# Altium schematic symbol library HTOL Project.SCHLIB: 9 symbols
Pins are listed as number, name and electrical type; pins without a type are passive.

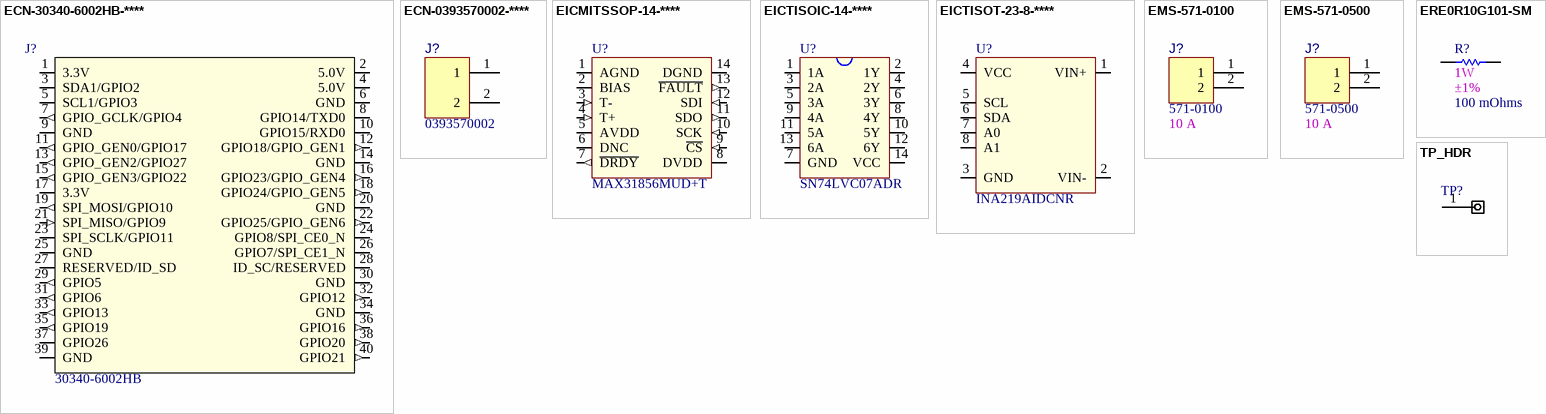
[diagram p0: symbols ECN-30340-6002HB-**** to TP_HDR]

## ECN-30340-6002HB-****
designator J?, comment value 30340-6002HB  (hidden comment: CONN HEADER VERT 40POS 2.54MM)
Manufacturer: 3M; Vendor Part Number: 3M15458-ND; Internal Part Number: ECN-30340-6002HB-****; Vendor Name: Digi-Key; 3rd Auxiliary Field: RoHS3 Compliant; Component Height (mm): 9.30mm; Temp Co: -55°C ~ 105°C; 1st Auxiliary Field: 2 Rows; Part Type: CONN HEADER VERT 40POS 2.54MM; Manufacturer Part Number: 30340-6002HB; 4th Auxiliary Field: *; 2nd Auxiliary Field: 2.54mm
footprint CONN_30340-6002HB (CONN HEADER VERT 40POS 2.54MM)
pins: 1 3.3V (power), 2 5.0V (power), 3 SDA1/GPIO2 (io), 4 5.0V (power), 5 SCL1/GPIO3 (io), 6 GND (power), 7 GPIO_GCLK/GPIO4 (out), 8 GPIO14/TXD0 (io), 9 GND (power), 10 GPIO15/RXD0 (io), 11 GPIO_GEN0/GPIO17 (out), 12 GPIO18/GPIO_GEN1 (out), 13 GPIO_GEN2/GPIO27 (out), 14 GND (power), 15 GPIO_GEN3/GPIO22 (out), 16 GPIO23/GPIO_GEN4 (out), 17 3.3V (power), 18 GPIO24/GPIO_GEN5 (out), 19 SPI_MOSI/GPIO10 (out), 20 GND (power), 21 SPI_MISO/GPIO9 (in), 22 GPIO25/GPIO_GEN6 (out), 23 SPI_SCLK/GPIO11 (io), 24 GPIO8/SPI_CE0_N (io), 25 GND (power), 26 GPIO7/SPI_CE1_N (io), 27 RESERVED/ID_SD (io), 28 ID_SC/RESERVED (io), 29 GPIO5 (out), 30 GND (power), 31 GPIO6 (out), 32 GPIO12 (out), 33 GPIO13 (out), 34 GND (power), 35 GPIO19 (out), 36 GPIO16 (out), 37 GPIO26 (io), 38 GPIO20 (out), 39 GND (power), 40 GPIO21 (out)

## ECN-0393570002-****
designator J?, comment value 0393570002  (hidden comment: TERM BLK 2POS SIDE ENT 3.5MM PCB)
Manufacturer: Molex; Internal Part Number: ECN-0393570002-****; Vendor Part Number: WM7877-ND; 3rd Auxiliary Field: ROHS3 Compliant; Temp Co: -40°C ~ 105°C; Vendor Name: Digi-Key; 1st Auxiliary Field: 12A; 2nd Auxiliary Field: 3.50mm; Manufacturer Part Number: 0393570002; Component Height (mm): *; Part Type: TERM BLK 2POS SIDE ENT 3.5MM PCB; 4th Auxiliary Field: *
footprint CONN_0393570002 (TERM BLK 2POS SIDE ENT 3.5MM PCB)
pins: 1, 2

## EICMITSSOP-14-****
designator U?, comment value MAX31856MUD+T  (hidden comment: IC CONV THERMOCOUPLE 14TSSOP)
Internal Part Number: EICMITSSOP-14-****; Manufacturer: Maxim Integrated; Vendor Part Number: MAX31856MUD+TCT-ND; 3rd Auxiliary Field: RoHS Compliant; Temp Coefficient: -55°C ~ 125°C; Vendor: Digi-Key; 1st Auxiliary Field: 1.2mA; 4th Auxiliary Field: *; Component Height (mm): *; Manufacturer Part Number: MAX31856MUD+T; Part Type: IC CONV THERMOCOUPLE 14TSSOP; 2nd Auxiliary Field: Thermocouple
footprint SOP65P640X120-14N (Footprint not found)
pins: 1 AGND (power), 2 BIAS (power), 3 T- (in), 4 T+ (in), 5 AVDD (power), 6 DNC, 7 ~{DRDY} (out), 8 DVDD (power), 9 ~{CS} (in), 10 SCK (in), 11 SDO (out), 12 SDI (in), 13 ~{FAULT} (out), 14 DGND (power)

## EICTISOIC-14-****
designator U?, comment value SN74LVC07ADR  (hidden comment: IC BUF NON-INVERT 5.5V 14SOIC)
Internal Part Number: EICTISOIC-14-****; Manufacturer: Texas Instruments; Vendor Part Number: 296-8441-2-ND; 3rd Auxiliary Field: ROHS3 Compliant; Component Height (mm): 3.90mm; Temp Coefficient: -40°C ~ 125°C (TA); Vendor: Digi-Key; 1st Auxiliary Field: 1.65V ~ 5.5V; 2nd Auxiliary Field: 24mA; 4th Auxiliary Field: *; Manufacturer Part Number: SN74LVC07ADR; Part Type: IC BUF NON-INVERT 5.5V 14SOIC
footprint SOIC127P600X175-14N (Footprint not found)
pins: 1 1A, 2 1Y, 3 2A, 4 2Y, 5 3A, 6 3Y, 7 GND, 8 4Y, 9 4A, 10 5Y, 11 5A, 12 6Y, 13 6A, 14 VCC

## EICTISOT-23-8-****
designator U?, comment value INA219AIDCNR  (hidden comment: IC CURRENT MONITOR 1% SOT23-8)
Internal Part Number: EICTISOT-23-8-****; Manufacturer: Texas Instruments; Vendor Part Number: 296-23770-6-ND; 3rd Auxiliary Field: ROHS3 Compliant; Temp Coefficient: -40°C ~ 125°C; Vendor: Digi-Key; 1st Auxiliary Field: 10mA; 2nd Auxiliary Field: 0V ~ 26V; 4th Auxiliary Field: *; Component Height (mm): *; Manufacturer Part Number: INA219AIDCNR; Part Type: IC CURRENT MONITOR 1% SOT23-8
footprint SOT65P260X130-8N (Footprint not found)
pins: 1 VIN+ (io), 2 VIN- (io), 3 GND (power), 4 VCC (power), 5 SCL (io), 6 SDA (io), 7 A0 (io), 8 A1 (io)

## EMS-571-0100
designator J?, comment value 571-0100  2nd Auxiliary Field: 10 A  (hidden comment: Test Sockets SINGLE PCB SOCK BLK)
Manufacturer: Deltron; Internal Part Number: EMS-571-0100; Vendor Part Number: 164-6218; 3rd Auxiliary Field: ROHS Compliant; Temp Co: -25°C ~ 110°C; Vendor Name: Mouser; 1st Auxiliary Field: 250 V; Manufacturer Part Number: 571-0100; Component Height (mm): *; Part Type: Test Sockets SINGLE PCB SOCK BLK; 4th Auxiliary Field: *
footprint CONN_571-0100 (Footprint not found)
pins: 1, 2

## EMS-571-0500
designator J?, comment value 571-0500  2nd Auxiliary Field: 10 A  (hidden comment: Test Sockets SINGLE PCB SOCK RED)
Manufacturer: Deltron; Internal Part Number: EMS-571-0500; Vendor Part Number: 164-6219; 3rd Auxiliary Field: ROHS Compliant; Temp Co: -25°C ~ 110°C; Vendor Name: Mouser; 1st Auxiliary Field: 250 V; Manufacturer Part Number: 571-0500; Component Height (mm): *; Part Type: Test Sockets SINGLE PCB SOCK RED; 4th Auxiliary Field: *
footprint CONN_571-0500 (Footprint not found)
pins: 1, 2

## ERE0R10G101-SM
designator R?, comment value 100 mOhms  1st Auxiliary Field: 1W  2nd Auxiliary Field: ±1%  (hidden comment: RES 0.1 OHM 1% 1W 2512)
Manufacturer Part Number: PT2512FK-070R1L; Manufacturer: Yageo; Internal Part Number: ERE0R10G101-SM; Vendor Part Number: 311-0.1ARCT-ND; 3rd Auxiliary Field: ROHS3 Compliant; Component Height (mm): 0.65mm; Temp Co: -55°C ~ 155°C; Vendor Name: Digi-Key; Part Type: RES 0.1 OHM 1% 1W 2512; 4th Auxiliary Field: *
footprint SMDR2512 (Footprint not found)
pins: 1, 2

## TP_HDR
designator TP?  (value not drawn)
footprint HDR1
pins: 1